# Altium schematic symbol library C2012JB1H335K125AB.SchLib: 2 symbols
Pins are listed as number, name and electrical type; pins without a type are passive.

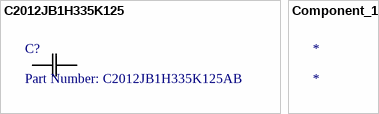
[diagram p0: symbols C2012JB1H335K125 to Component_1]

## C2012JB1H335K125
designator C?, comment Part Number: C2012JB1H335K125AB
No Description Available; Vendor: TDK; Built_By: EMA_UL_Team; Type: DEV; Manufacturer_Part_Number: C2012JB1H335K125AB; Copyright: Copyright (C) 2018 Accelerated Designs. All rights reserved; RefDes: RefDes; Value: Value
footprint CAP_2012
pins: 1, 2

## Component_1
designator *